# Altium schematic symbol library D1213A-01SO-7.SchLib: 1 symbol
Pins are listed as number, name and electrical type; pins without a type are passive.

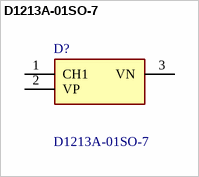
[diagram p0: symbol D1213A-01SO-7]

## D1213A-01SO-7
designator D?
10V (Typ) Clamp 1A (8/20s) Ipp Tvs Diode Surface Mount SOT-23-3; Manufacturer_Name: Diodes Incorporated; Geometry.Height: 1.2mm; Mouser Part Number: 621-D1213A-01SO-7; Mouser Price/Stock: https://www.mouser.com/Search/Refine.aspx?Keyword=621-D1213A-01SO-7; Manufacturer_Part_Number: D1213A-01SO-7; Datasheet Link: https://componentsearchengine.com/Datasheets/1/D1213A-01SO-7.pdf
footprint D1213A01SO7
pins: 1 CH1, 2 VP, 3 VN